# Altium schematic symbol library Regulator_Linear.SchLib: 1620 symbols (part 3 of 16)
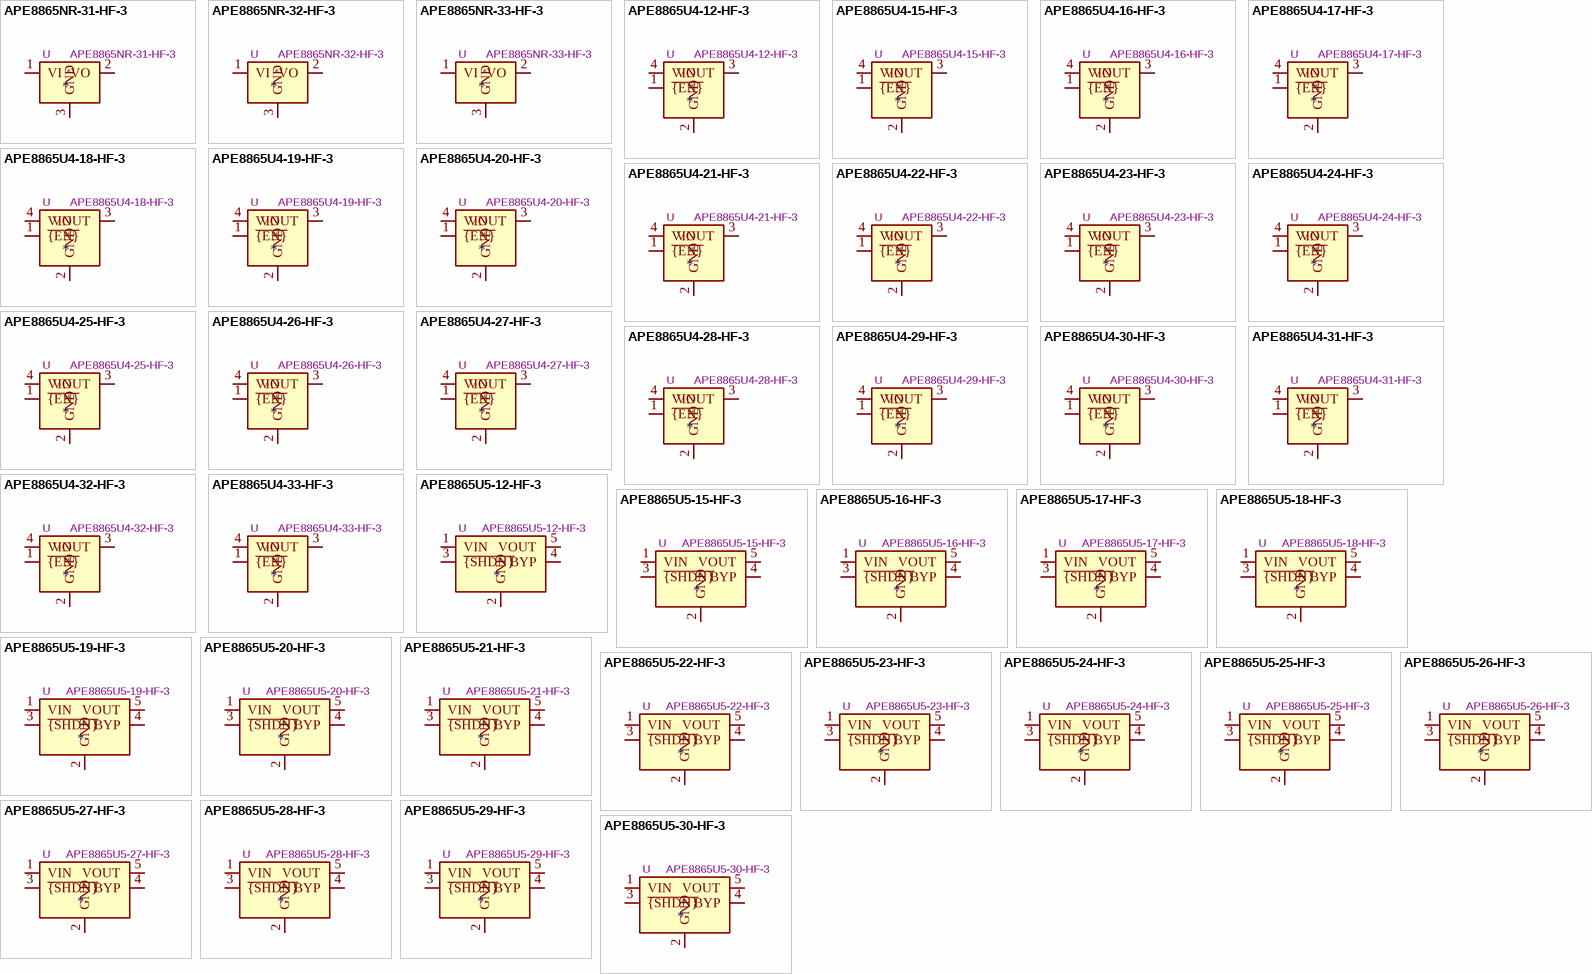
[diagram p42: symbols APE8865NR-31-HF-3 to APE8865U5-30-HF-3]

## APE8865U4-23-HF-3
designator *  value APE8865U4-23-HF-3  Reference: U
300mA Low Dropout Voltage Regulator, Fixed Output 2.3V, SC-70-4; ki_keywords: 300mA LDO Regulator Fixed Positive; ki_fp_filters: *SC?70*; Footprint: Package_TO_SOT_SMD:SOT-343_SC-70-4; Datasheet: http://www.tme.eu/fr/Document/ced3461ed31ea70a3c416fb648e0cde7/APE8865-3.pdf; Description_: 300mA Low Dropout Voltage Regulator, Fixed Output 2.3V, SC-70-4
pins: 1 ~{{EN}}, 2 GND, 3 VOUT, 4 VIN

## APE8865U4-24-HF-3
designator *  value APE8865U4-24-HF-3  Reference: U
300mA Low Dropout Voltage Regulator, Fixed Output 2.4V, SC-70-4; ki_keywords: 300mA LDO Regulator Fixed Positive; ki_fp_filters: *SC?70*; Footprint: Package_TO_SOT_SMD:SOT-343_SC-70-4; Datasheet: http://www.tme.eu/fr/Document/ced3461ed31ea70a3c416fb648e0cde7/APE8865-3.pdf; Description_: 300mA Low Dropout Voltage Regulator, Fixed Output 2.4V, SC-70-4
pins: 1 ~{{EN}}, 2 GND, 3 VOUT, 4 VIN

## APE8865U4-25-HF-3
designator *  value APE8865U4-25-HF-3  Reference: U
300mA Low Dropout Voltage Regulator, Fixed Output 2.5V, SC-70-4; ki_keywords: 300mA LDO Regulator Fixed Positive; ki_fp_filters: *SC?70*; Footprint: Package_TO_SOT_SMD:SOT-343_SC-70-4; Datasheet: http://www.tme.eu/fr/Document/ced3461ed31ea70a3c416fb648e0cde7/APE8865-3.pdf; Description_: 300mA Low Dropout Voltage Regulator, Fixed Output 2.5V, SC-70-4
pins: 1 ~{{EN}}, 2 GND, 3 VOUT, 4 VIN

## APE8865U4-26-HF-3
designator *  value APE8865U4-26-HF-3  Reference: U
300mA Low Dropout Voltage Regulator, Fixed Output 2.6V, SC-70-4; ki_keywords: 300mA LDO Regulator Fixed Positive; ki_fp_filters: *SC?70*; Footprint: Package_TO_SOT_SMD:SOT-343_SC-70-4; Datasheet: http://www.tme.eu/fr/Document/ced3461ed31ea70a3c416fb648e0cde7/APE8865-3.pdf; Description_: 300mA Low Dropout Voltage Regulator, Fixed Output 2.6V, SC-70-4
pins: 1 ~{{EN}}, 2 GND, 3 VOUT, 4 VIN

## APE8865U4-27-HF-3
designator *  value APE8865U4-27-HF-3  Reference: U
300mA Low Dropout Voltage Regulator, Fixed Output 2.7V, SC-70-4; ki_keywords: 300mA LDO Regulator Fixed Positive; ki_fp_filters: *SC?70*; Footprint: Package_TO_SOT_SMD:SOT-343_SC-70-4; Datasheet: http://www.tme.eu/fr/Document/ced3461ed31ea70a3c416fb648e0cde7/APE8865-3.pdf; Description_: 300mA Low Dropout Voltage Regulator, Fixed Output 2.7V, SC-70-4
pins: 1 ~{{EN}}, 2 GND, 3 VOUT, 4 VIN

## APE8865U4-28-HF-3
designator *  value APE8865U4-28-HF-3  Reference: U
300mA Low Dropout Voltage Regulator, Fixed Output 2.8V, SC-70-4; ki_keywords: 300mA LDO Regulator Fixed Positive; ki_fp_filters: *SC?70*; Footprint: Package_TO_SOT_SMD:SOT-343_SC-70-4; Datasheet: http://www.tme.eu/fr/Document/ced3461ed31ea70a3c416fb648e0cde7/APE8865-3.pdf; Description_: 300mA Low Dropout Voltage Regulator, Fixed Output 2.8V, SC-70-4
pins: 1 ~{{EN}}, 2 GND, 3 VOUT, 4 VIN

## APE8865U4-29-HF-3
designator *  value APE8865U4-29-HF-3  Reference: U
300mA Low Dropout Voltage Regulator, Fixed Output 2.9V, SC-70-4; ki_keywords: 300mA LDO Regulator Fixed Positive; ki_fp_filters: *SC?70*; Footprint: Package_TO_SOT_SMD:SOT-343_SC-70-4; Datasheet: http://www.tme.eu/fr/Document/ced3461ed31ea70a3c416fb648e0cde7/APE8865-3.pdf; Description_: 300mA Low Dropout Voltage Regulator, Fixed Output 2.9V, SC-70-4
pins: 1 ~{{EN}}, 2 GND, 3 VOUT, 4 VIN

## APE8865U4-30-HF-3
designator *  value APE8865U4-30-HF-3  Reference: U
300mA Low Dropout Voltage Regulator, Fixed Output 3.0V, SC-70-4; ki_keywords: 300mA LDO Regulator Fixed Positive; ki_fp_filters: *SC?70*; Footprint: Package_TO_SOT_SMD:SOT-343_SC-70-4; Datasheet: http://www.tme.eu/fr/Document/ced3461ed31ea70a3c416fb648e0cde7/APE8865-3.pdf; Description_: 300mA Low Dropout Voltage Regulator, Fixed Output 3.0V, SC-70-4
pins: 1 ~{{EN}}, 2 GND, 3 VOUT, 4 VIN

## APE8865U4-31-HF-3
designator *  value APE8865U4-31-HF-3  Reference: U
300mA Low Dropout Voltage Regulator, Fixed Output 3.1V, SC-70-4; ki_keywords: 300mA LDO Regulator Fixed Positive; ki_fp_filters: *SC?70*; Footprint: Package_TO_SOT_SMD:SOT-343_SC-70-4; Datasheet: http://www.tme.eu/fr/Document/ced3461ed31ea70a3c416fb648e0cde7/APE8865-3.pdf; Description_: 300mA Low Dropout Voltage Regulator, Fixed Output 3.1V, SC-70-4
pins: 1 ~{{EN}}, 2 GND, 3 VOUT, 4 VIN

## APE8865U4-32-HF-3
designator *  value APE8865U4-32-HF-3  Reference: U
300mA Low Dropout Voltage Regulator, Fixed Output 3.2V, SC-70-4; ki_keywords: 300mA LDO Regulator Fixed Positive; ki_fp_filters: *SC?70*; Footprint: Package_TO_SOT_SMD:SOT-343_SC-70-4; Datasheet: http://www.tme.eu/fr/Document/ced3461ed31ea70a3c416fb648e0cde7/APE8865-3.pdf; Description_: 300mA Low Dropout Voltage Regulator, Fixed Output 3.2V, SC-70-4
pins: 1 ~{{EN}}, 2 GND, 3 VOUT, 4 VIN

## APE8865U4-33-HF-3
designator *  value APE8865U4-33-HF-3  Reference: U
300mA Low Dropout Voltage Regulator, Fixed Output 3.3V, SC-70-4; ki_keywords: 300mA LDO Regulator Fixed Positive; ki_fp_filters: *SC?70*; Footprint: Package_TO_SOT_SMD:SOT-343_SC-70-4; Datasheet: http://www.tme.eu/fr/Document/ced3461ed31ea70a3c416fb648e0cde7/APE8865-3.pdf; Description_: 300mA Low Dropout Voltage Regulator, Fixed Output 3.3V, SC-70-4
pins: 1 ~{{EN}}, 2 GND, 3 VOUT, 4 VIN

## APE8865U5-12-HF-3
designator *  value APE8865U5-12-HF-3  Reference: U
300mA Low Dropout Voltage Regulator, Fixed Output 1.2V, SC-70-5; ki_keywords: 300mA LDO Regulator Fixed Positive; ki_fp_filters: *SC?70*; Footprint: Package_TO_SOT_SMD:SOT-353_SC-70-5; Datasheet: http://www.tme.eu/fr/Document/ced3461ed31ea70a3c416fb648e0cde7/APE8865-3.pdf; Description_: 300mA Low Dropout Voltage Regulator, Fixed Output 1.2V, SC-70-5
pins: 1 VIN, 2 GND, 3 ~{{SHDN}}, 4 BYP, 5 VOUT

## APE8865U5-15-HF-3
designator *  value APE8865U5-15-HF-3  Reference: U
300mA Low Dropout Voltage Regulator, Fixed Output 1.5V, SC-70-5; ki_keywords: 300mA LDO Regulator Fixed Positive; ki_fp_filters: *SC?70*; Footprint: Package_TO_SOT_SMD:SOT-353_SC-70-5; Datasheet: http://www.tme.eu/fr/Document/ced3461ed31ea70a3c416fb648e0cde7/APE8865-3.pdf; Description_: 300mA Low Dropout Voltage Regulator, Fixed Output 1.5V, SC-70-5
pins: 1 VIN, 2 GND, 3 ~{{SHDN}}, 4 BYP, 5 VOUT

## APE8865U5-16-HF-3
designator *  value APE8865U5-16-HF-3  Reference: U
300mA Low Dropout Voltage Regulator, Fixed Output 1.6V, SC-70-5; ki_keywords: 300mA LDO Regulator Fixed Positive; ki_fp_filters: *SC?70*; Footprint: Package_TO_SOT_SMD:SOT-353_SC-70-5; Datasheet: http://www.tme.eu/fr/Document/ced3461ed31ea70a3c416fb648e0cde7/APE8865-3.pdf; Description_: 300mA Low Dropout Voltage Regulator, Fixed Output 1.6V, SC-70-5
pins: 1 VIN, 2 GND, 3 ~{{SHDN}}, 4 BYP, 5 VOUT

## APE8865U5-17-HF-3
designator *  value APE8865U5-17-HF-3  Reference: U
300mA Low Dropout Voltage Regulator, Fixed Output 1.7V, SC-70-5; ki_keywords: 300mA LDO Regulator Fixed Positive; ki_fp_filters: *SC?70*; Footprint: Package_TO_SOT_SMD:SOT-353_SC-70-5; Datasheet: http://www.tme.eu/fr/Document/ced3461ed31ea70a3c416fb648e0cde7/APE8865-3.pdf; Description_: 300mA Low Dropout Voltage Regulator, Fixed Output 1.7V, SC-70-5
pins: 1 VIN, 2 GND, 3 ~{{SHDN}}, 4 BYP, 5 VOUT

## APE8865U5-18-HF-3
designator *  value APE8865U5-18-HF-3  Reference: U
300mA Low Dropout Voltage Regulator, Fixed Output 1.8V, SC-70-5; ki_keywords: 300mA LDO Regulator Fixed Positive; ki_fp_filters: *SC?70*; Footprint: Package_TO_SOT_SMD:SOT-353_SC-70-5; Datasheet: http://www.tme.eu/fr/Document/ced3461ed31ea70a3c416fb648e0cde7/APE8865-3.pdf; Description_: 300mA Low Dropout Voltage Regulator, Fixed Output 1.8V, SC-70-5
pins: 1 VIN, 2 GND, 3 ~{{SHDN}}, 4 BYP, 5 VOUT

## APE8865U5-19-HF-3
designator *  value APE8865U5-19-HF-3  Reference: U
300mA Low Dropout Voltage Regulator, Fixed Output 1.9V, SC-70-5; ki_keywords: 300mA LDO Regulator Fixed Positive; ki_fp_filters: *SC?70*; Footprint: Package_TO_SOT_SMD:SOT-353_SC-70-5; Datasheet: http://www.tme.eu/fr/Document/ced3461ed31ea70a3c416fb648e0cde7/APE8865-3.pdf; Description_: 300mA Low Dropout Voltage Regulator, Fixed Output 1.9V, SC-70-5
pins: 1 VIN, 2 GND, 3 ~{{SHDN}}, 4 BYP, 5 VOUT

## APE8865U5-20-HF-3
designator *  value APE8865U5-20-HF-3  Reference: U
300mA Low Dropout Voltage Regulator, Fixed Output 2.0V, SC-70-5; ki_keywords: 300mA LDO Regulator Fixed Positive; ki_fp_filters: *SC?70*; Footprint: Package_TO_SOT_SMD:SOT-353_SC-70-5; Datasheet: http://www.tme.eu/fr/Document/ced3461ed31ea70a3c416fb648e0cde7/APE8865-3.pdf; Description_: 300mA Low Dropout Voltage Regulator, Fixed Output 2.0V, SC-70-5
pins: 1 VIN, 2 GND, 3 ~{{SHDN}}, 4 BYP, 5 VOUT

## APE8865U5-21-HF-3
designator *  value APE8865U5-21-HF-3  Reference: U
300mA Low Dropout Voltage Regulator, Fixed Output 2.1V, SC-70-5; ki_keywords: 300mA LDO Regulator Fixed Positive; ki_fp_filters: *SC?70*; Footprint: Package_TO_SOT_SMD:SOT-353_SC-70-5; Datasheet: http://www.tme.eu/fr/Document/ced3461ed31ea70a3c416fb648e0cde7/APE8865-3.pdf; Description_: 300mA Low Dropout Voltage Regulator, Fixed Output 2.1V, SC-70-5
pins: 1 VIN, 2 GND, 3 ~{{SHDN}}, 4 BYP, 5 VOUT

## APE8865U5-22-HF-3
designator *  value APE8865U5-22-HF-3  Reference: U
300mA Low Dropout Voltage Regulator, Fixed Output 2.2V, SC-70-5; ki_keywords: 300mA LDO Regulator Fixed Positive; ki_fp_filters: *SC?70*; Footprint: Package_TO_SOT_SMD:SOT-353_SC-70-5; Datasheet: http://www.tme.eu/fr/Document/ced3461ed31ea70a3c416fb648e0cde7/APE8865-3.pdf; Description_: 300mA Low Dropout Voltage Regulator, Fixed Output 2.2V, SC-70-5
pins: 1 VIN, 2 GND, 3 ~{{SHDN}}, 4 BYP, 5 VOUT

## APE8865U5-23-HF-3
designator *  value APE8865U5-23-HF-3  Reference: U
300mA Low Dropout Voltage Regulator, Fixed Output 2.3V, SC-70-5; ki_keywords: 300mA LDO Regulator Fixed Positive; ki_fp_filters: *SC?70*; Footprint: Package_TO_SOT_SMD:SOT-353_SC-70-5; Datasheet: http://www.tme.eu/fr/Document/ced3461ed31ea70a3c416fb648e0cde7/APE8865-3.pdf; Description_: 300mA Low Dropout Voltage Regulator, Fixed Output 2.3V, SC-70-5
pins: 1 VIN, 2 GND, 3 ~{{SHDN}}, 4 BYP, 5 VOUT

## APE8865U5-24-HF-3
designator *  value APE8865U5-24-HF-3  Reference: U
300mA Low Dropout Voltage Regulator, Fixed Output 2.4V, SC-70-5; ki_keywords: 300mA LDO Regulator Fixed Positive; ki_fp_filters: *SC?70*; Footprint: Package_TO_SOT_SMD:SOT-353_SC-70-5; Datasheet: http://www.tme.eu/fr/Document/ced3461ed31ea70a3c416fb648e0cde7/APE8865-3.pdf; Description_: 300mA Low Dropout Voltage Regulator, Fixed Output 2.4V, SC-70-5
pins: 1 VIN, 2 GND, 3 ~{{SHDN}}, 4 BYP, 5 VOUT

## APE8865U5-25-HF-3
designator *  value APE8865U5-25-HF-3  Reference: U
300mA Low Dropout Voltage Regulator, Fixed Output 2.5V, SC-70-5; ki_keywords: 300mA LDO Regulator Fixed Positive; ki_fp_filters: *SC?70*; Footprint: Package_TO_SOT_SMD:SOT-353_SC-70-5; Datasheet: http://www.tme.eu/fr/Document/ced3461ed31ea70a3c416fb648e0cde7/APE8865-3.pdf; Description_: 300mA Low Dropout Voltage Regulator, Fixed Output 2.5V, SC-70-5
pins: 1 VIN, 2 GND, 3 ~{{SHDN}}, 4 BYP, 5 VOUT

## APE8865U5-26-HF-3
designator *  value APE8865U5-26-HF-3  Reference: U
300mA Low Dropout Voltage Regulator, Fixed Output 2.6V, SC-70-5; ki_keywords: 300mA LDO Regulator Fixed Positive; ki_fp_filters: *SC?70*; Footprint: Package_TO_SOT_SMD:SOT-353_SC-70-5; Datasheet: http://www.tme.eu/fr/Document/ced3461ed31ea70a3c416fb648e0cde7/APE8865-3.pdf; Description_: 300mA Low Dropout Voltage Regulator, Fixed Output 2.6V, SC-70-5
pins: 1 VIN, 2 GND, 3 ~{{SHDN}}, 4 BYP, 5 VOUT

## APE8865U5-27-HF-3
designator *  value APE8865U5-27-HF-3  Reference: U
300mA Low Dropout Voltage Regulator, Fixed Output 2.7V, SC-70-5; ki_keywords: 300mA LDO Regulator Fixed Positive; ki_fp_filters: *SC?70*; Footprint: Package_TO_SOT_SMD:SOT-353_SC-70-5; Datasheet: http://www.tme.eu/fr/Document/ced3461ed31ea70a3c416fb648e0cde7/APE8865-3.pdf; Description_: 300mA Low Dropout Voltage Regulator, Fixed Output 2.7V, SC-70-5
pins: 1 VIN, 2 GND, 3 ~{{SHDN}}, 4 BYP, 5 VOUT

## APE8865U5-28-HF-3
designator *  value APE8865U5-28-HF-3  Reference: U
300mA Low Dropout Voltage Regulator, Fixed Output 2.8V, SC-70-5; ki_keywords: 300mA LDO Regulator Fixed Positive; ki_fp_filters: *SC?70*; Footprint: Package_TO_SOT_SMD:SOT-353_SC-70-5; Datasheet: http://www.tme.eu/fr/Document/ced3461ed31ea70a3c416fb648e0cde7/APE8865-3.pdf; Description_: 300mA Low Dropout Voltage Regulator, Fixed Output 2.8V, SC-70-5
pins: 1 VIN, 2 GND, 3 ~{{SHDN}}, 4 BYP, 5 VOUT

## APE8865U5-29-HF-3
designator *  value APE8865U5-29-HF-3  Reference: U
300mA Low Dropout Voltage Regulator, Fixed Output 2.9V, SC-70-5; ki_keywords: 300mA LDO Regulator Fixed Positive; ki_fp_filters: *SC?70*; Footprint: Package_TO_SOT_SMD:SOT-353_SC-70-5; Datasheet: http://www.tme.eu/fr/Document/ced3461ed31ea70a3c416fb648e0cde7/APE8865-3.pdf; Description_: 300mA Low Dropout Voltage Regulator, Fixed Output 2.9V, SC-70-5
pins: 1 VIN, 2 GND, 3 ~{{SHDN}}, 4 BYP, 5 VOUT

## APE8865U5-30-HF-3
designator *  value APE8865U5-30-HF-3  Reference: U
300mA Low Dropout Voltage Regulator, Fixed Output 3.0V, SC-70-5; ki_keywords: 300mA LDO Regulator Fixed Positive; ki_fp_filters: *SC?70*; Footprint: Package_TO_SOT_SMD:SOT-353_SC-70-5; Datasheet: http://www.tme.eu/fr/Document/ced3461ed31ea70a3c416fb648e0cde7/APE8865-3.pdf; Description_: 300mA Low Dropout Voltage Regulator, Fixed Output 3.0V, SC-70-5
pins: 1 VIN, 2 GND, 3 ~{{SHDN}}, 4 BYP, 5 VOUT

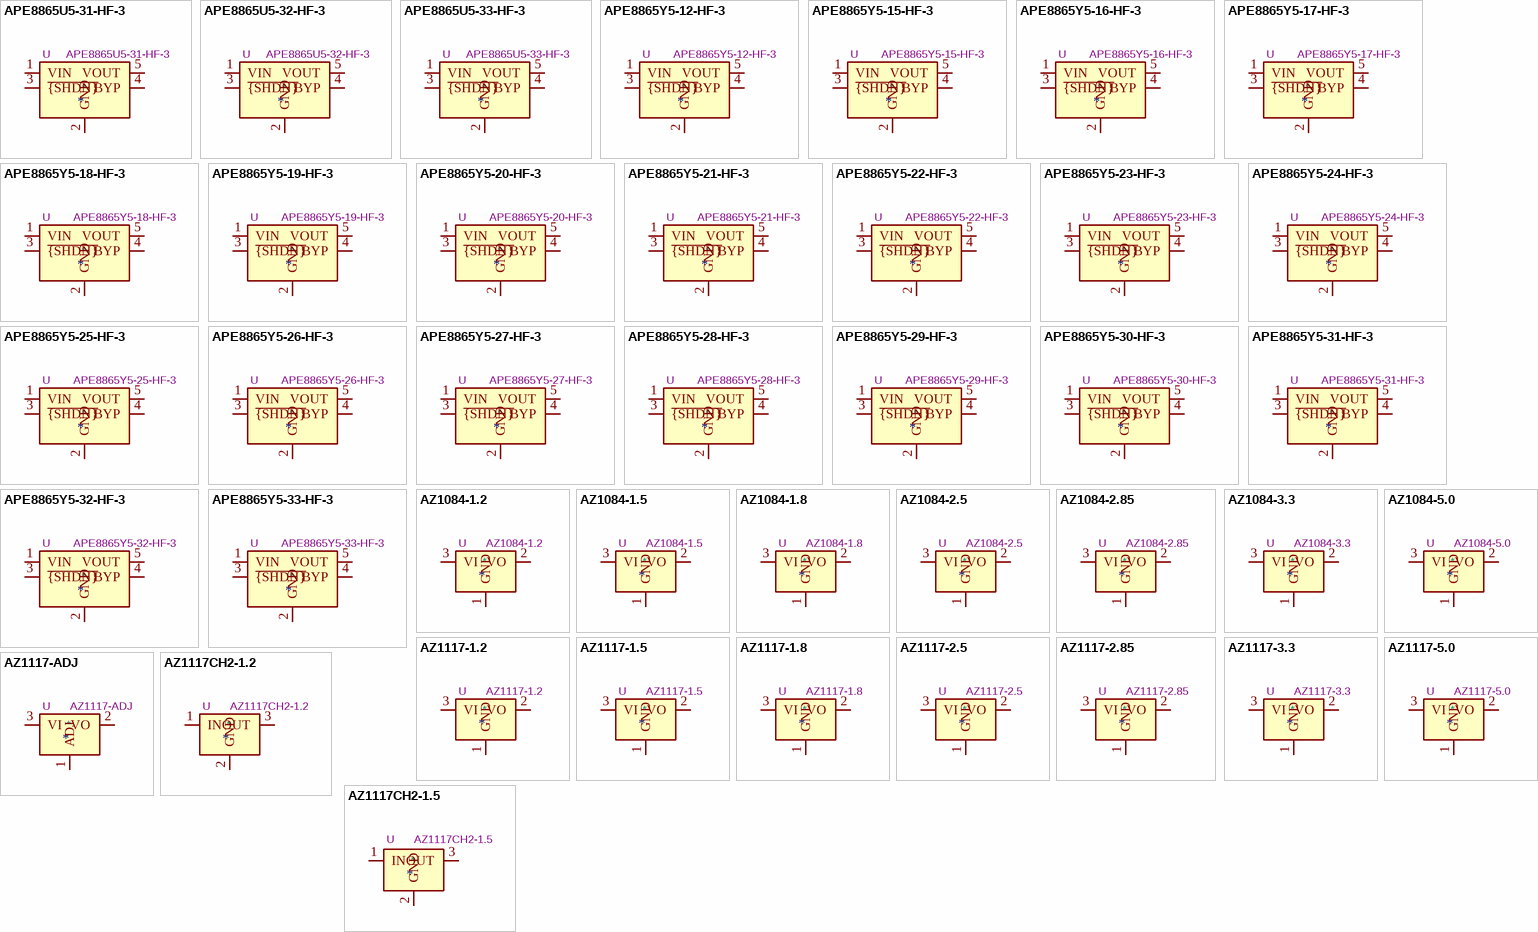
[diagram p6: symbols APE8865U5-31-HF-3 to AZ1117CH2-1.5]

## APE8865U5-31-HF-3
designator *  value APE8865U5-31-HF-3  Reference: U
300mA Low Dropout Voltage Regulator, Fixed Output 3.1V, SC-70-5; ki_keywords: 300mA LDO Regulator Fixed Positive; ki_fp_filters: *SC?70*; Footprint: Package_TO_SOT_SMD:SOT-353_SC-70-5; Datasheet: http://www.tme.eu/fr/Document/ced3461ed31ea70a3c416fb648e0cde7/APE8865-3.pdf; Description_: 300mA Low Dropout Voltage Regulator, Fixed Output 3.1V, SC-70-5
pins: 1 VIN, 2 GND, 3 ~{{SHDN}}, 4 BYP, 5 VOUT

## APE8865U5-32-HF-3
designator *  value APE8865U5-32-HF-3  Reference: U
300mA Low Dropout Voltage Regulator, Fixed Output 3.2V, SC-70-5; ki_keywords: 300mA LDO Regulator Fixed Positive; ki_fp_filters: *SC?70*; Footprint: Package_TO_SOT_SMD:SOT-353_SC-70-5; Datasheet: http://www.tme.eu/fr/Document/ced3461ed31ea70a3c416fb648e0cde7/APE8865-3.pdf; Description_: 300mA Low Dropout Voltage Regulator, Fixed Output 3.2V, SC-70-5
pins: 1 VIN, 2 GND, 3 ~{{SHDN}}, 4 BYP, 5 VOUT

## APE8865U5-33-HF-3
designator *  value APE8865U5-33-HF-3  Reference: U
300mA Low Dropout Voltage Regulator, Fixed Output 3.3V, SC-70-5; ki_keywords: 300mA LDO Regulator Fixed Positive; ki_fp_filters: *SC?70*; Footprint: Package_TO_SOT_SMD:SOT-353_SC-70-5; Datasheet: http://www.tme.eu/fr/Document/ced3461ed31ea70a3c416fb648e0cde7/APE8865-3.pdf; Description_: 300mA Low Dropout Voltage Regulator, Fixed Output 3.3V, SC-70-5
pins: 1 VIN, 2 GND, 3 ~{{SHDN}}, 4 BYP, 5 VOUT

## APE8865Y5-12-HF-3
designator *  value APE8865Y5-12-HF-3  Reference: U
300mA Low Dropout Voltage Regulator, Fixed Output 1.2V, SOT-23-5; ki_keywords: 300mA LDO Regulator Fixed Positive; ki_fp_filters: SOT?23*; Footprint: Package_TO_SOT_SMD:SOT-23-5; Datasheet: http://www.tme.eu/fr/Document/ced3461ed31ea70a3c416fb648e0cde7/APE8865-3.pdf; Description_: 300mA Low Dropout Voltage Regulator, Fixed Output 1.2V, SOT-23-5
pins: 1 VIN, 2 GND, 3 ~{{SHDN}}, 4 BYP, 5 VOUT

## APE8865Y5-15-HF-3
designator *  value APE8865Y5-15-HF-3  Reference: U
300mA Low Dropout Voltage Regulator, Fixed Output 1.5V, SOT-23-5; ki_keywords: 300mA LDO Regulator Fixed Positive; ki_fp_filters: SOT?23*; Footprint: Package_TO_SOT_SMD:SOT-23-5; Datasheet: http://www.tme.eu/fr/Document/ced3461ed31ea70a3c416fb648e0cde7/APE8865-3.pdf; Description_: 300mA Low Dropout Voltage Regulator, Fixed Output 1.5V, SOT-23-5
pins: 1 VIN, 2 GND, 3 ~{{SHDN}}, 4 BYP, 5 VOUT

## APE8865Y5-16-HF-3
designator *  value APE8865Y5-16-HF-3  Reference: U
300mA Low Dropout Voltage Regulator, Fixed Output 1.6V, SOT-23-5; ki_keywords: 300mA LDO Regulator Fixed Positive; ki_fp_filters: SOT?23*; Footprint: Package_TO_SOT_SMD:SOT-23-5; Datasheet: http://www.tme.eu/fr/Document/ced3461ed31ea70a3c416fb648e0cde7/APE8865-3.pdf; Description_: 300mA Low Dropout Voltage Regulator, Fixed Output 1.6V, SOT-23-5
pins: 1 VIN, 2 GND, 3 ~{{SHDN}}, 4 BYP, 5 VOUT

## APE8865Y5-17-HF-3
designator *  value APE8865Y5-17-HF-3  Reference: U
300mA Low Dropout Voltage Regulator, Fixed Output 1.7V, SOT-23-5; ki_keywords: 300mA LDO Regulator Fixed Positive; ki_fp_filters: SOT?23*; Footprint: Package_TO_SOT_SMD:SOT-23-5; Datasheet: http://www.tme.eu/fr/Document/ced3461ed31ea70a3c416fb648e0cde7/APE8865-3.pdf; Description_: 300mA Low Dropout Voltage Regulator, Fixed Output 1.7V, SOT-23-5
pins: 1 VIN, 2 GND, 3 ~{{SHDN}}, 4 BYP, 5 VOUT

## APE8865Y5-18-HF-3
designator *  value APE8865Y5-18-HF-3  Reference: U
300mA Low Dropout Voltage Regulator, Fixed Output 1.8V, SOT-23-5; ki_keywords: 300mA LDO Regulator Fixed Positive; ki_fp_filters: SOT?23*; Footprint: Package_TO_SOT_SMD:SOT-23-5; Datasheet: http://www.tme.eu/fr/Document/ced3461ed31ea70a3c416fb648e0cde7/APE8865-3.pdf; Description_: 300mA Low Dropout Voltage Regulator, Fixed Output 1.8V, SOT-23-5
pins: 1 VIN, 2 GND, 3 ~{{SHDN}}, 4 BYP, 5 VOUT

## APE8865Y5-19-HF-3
designator *  value APE8865Y5-19-HF-3  Reference: U
300mA Low Dropout Voltage Regulator, Fixed Output 1.9V, SOT-23-5; ki_keywords: 300mA LDO Regulator Fixed Positive; ki_fp_filters: SOT?23*; Footprint: Package_TO_SOT_SMD:SOT-23-5; Datasheet: http://www.tme.eu/fr/Document/ced3461ed31ea70a3c416fb648e0cde7/APE8865-3.pdf; Description_: 300mA Low Dropout Voltage Regulator, Fixed Output 1.9V, SOT-23-5
pins: 1 VIN, 2 GND, 3 ~{{SHDN}}, 4 BYP, 5 VOUT

## APE8865Y5-20-HF-3
designator *  value APE8865Y5-20-HF-3  Reference: U
300mA Low Dropout Voltage Regulator, Fixed Output 2.0V, SOT-23-5; ki_keywords: 300mA LDO Regulator Fixed Positive; ki_fp_filters: SOT?23*; Footprint: Package_TO_SOT_SMD:SOT-23-5; Datasheet: http://www.tme.eu/fr/Document/ced3461ed31ea70a3c416fb648e0cde7/APE8865-3.pdf; Description_: 300mA Low Dropout Voltage Regulator, Fixed Output 2.0V, SOT-23-5
pins: 1 VIN, 2 GND, 3 ~{{SHDN}}, 4 BYP, 5 VOUT

## APE8865Y5-21-HF-3
designator *  value APE8865Y5-21-HF-3  Reference: U
300mA Low Dropout Voltage Regulator, Fixed Output 2.1V, SOT-23-5; ki_keywords: 300mA LDO Regulator Fixed Positive; ki_fp_filters: SOT?23*; Footprint: Package_TO_SOT_SMD:SOT-23-5; Datasheet: http://www.tme.eu/fr/Document/ced3461ed31ea70a3c416fb648e0cde7/APE8865-3.pdf; Description_: 300mA Low Dropout Voltage Regulator, Fixed Output 2.1V, SOT-23-5
pins: 1 VIN, 2 GND, 3 ~{{SHDN}}, 4 BYP, 5 VOUT

## APE8865Y5-22-HF-3
designator *  value APE8865Y5-22-HF-3  Reference: U
300mA Low Dropout Voltage Regulator, Fixed Output 2.2V, SOT-23-5; ki_keywords: 300mA LDO Regulator Fixed Positive; ki_fp_filters: SOT?23*; Footprint: Package_TO_SOT_SMD:SOT-23-5; Datasheet: http://www.tme.eu/fr/Document/ced3461ed31ea70a3c416fb648e0cde7/APE8865-3.pdf; Description_: 300mA Low Dropout Voltage Regulator, Fixed Output 2.2V, SOT-23-5
pins: 1 VIN, 2 GND, 3 ~{{SHDN}}, 4 BYP, 5 VOUT

## APE8865Y5-23-HF-3
designator *  value APE8865Y5-23-HF-3  Reference: U
300mA Low Dropout Voltage Regulator, Fixed Output 2.3V, SOT-23-5; ki_keywords: 300mA LDO Regulator Fixed Positive; ki_fp_filters: SOT?23*; Footprint: Package_TO_SOT_SMD:SOT-23-5; Datasheet: http://www.tme.eu/fr/Document/ced3461ed31ea70a3c416fb648e0cde7/APE8865-3.pdf; Description_: 300mA Low Dropout Voltage Regulator, Fixed Output 2.3V, SOT-23-5
pins: 1 VIN, 2 GND, 3 ~{{SHDN}}, 4 BYP, 5 VOUT

## APE8865Y5-24-HF-3
designator *  value APE8865Y5-24-HF-3  Reference: U
300mA Low Dropout Voltage Regulator, Fixed Output 2.4V, SOT-23-5; ki_keywords: 300mA LDO Regulator Fixed Positive; ki_fp_filters: SOT?23*; Footprint: Package_TO_SOT_SMD:SOT-23-5; Datasheet: http://www.tme.eu/fr/Document/ced3461ed31ea70a3c416fb648e0cde7/APE8865-3.pdf; Description_: 300mA Low Dropout Voltage Regulator, Fixed Output 2.4V, SOT-23-5
pins: 1 VIN, 2 GND, 3 ~{{SHDN}}, 4 BYP, 5 VOUT

## APE8865Y5-25-HF-3
designator *  value APE8865Y5-25-HF-3  Reference: U
300mA Low Dropout Voltage Regulator, Fixed Output 2.5V, SOT-23-5; ki_keywords: 300mA LDO Regulator Fixed Positive; ki_fp_filters: SOT?23*; Footprint: Package_TO_SOT_SMD:SOT-23-5; Datasheet: http://www.tme.eu/fr/Document/ced3461ed31ea70a3c416fb648e0cde7/APE8865-3.pdf; Description_: 300mA Low Dropout Voltage Regulator, Fixed Output 2.5V, SOT-23-5
pins: 1 VIN, 2 GND, 3 ~{{SHDN}}, 4 BYP, 5 VOUT

## APE8865Y5-26-HF-3
designator *  value APE8865Y5-26-HF-3  Reference: U
300mA Low Dropout Voltage Regulator, Fixed Output 2.6V, SOT-23-5; ki_keywords: 300mA LDO Regulator Fixed Positive; ki_fp_filters: SOT?23*; Footprint: Package_TO_SOT_SMD:SOT-23-5; Datasheet: http://www.tme.eu/fr/Document/ced3461ed31ea70a3c416fb648e0cde7/APE8865-3.pdf; Description_: 300mA Low Dropout Voltage Regulator, Fixed Output 2.6V, SOT-23-5
pins: 1 VIN, 2 GND, 3 ~{{SHDN}}, 4 BYP, 5 VOUT

## APE8865Y5-27-HF-3
designator *  value APE8865Y5-27-HF-3  Reference: U
300mA Low Dropout Voltage Regulator, Fixed Output 2.7V, SOT-23-5; ki_keywords: 300mA LDO Regulator Fixed Positive; ki_fp_filters: SOT?23*; Footprint: Package_TO_SOT_SMD:SOT-23-5; Datasheet: http://www.tme.eu/fr/Document/ced3461ed31ea70a3c416fb648e0cde7/APE8865-3.pdf; Description_: 300mA Low Dropout Voltage Regulator, Fixed Output 2.7V, SOT-23-5
pins: 1 VIN, 2 GND, 3 ~{{SHDN}}, 4 BYP, 5 VOUT

## APE8865Y5-28-HF-3
designator *  value APE8865Y5-28-HF-3  Reference: U
300mA Low Dropout Voltage Regulator, Fixed Output 2.8V, SOT-23-5; ki_keywords: 300mA LDO Regulator Fixed Positive; ki_fp_filters: SOT?23*; Footprint: Package_TO_SOT_SMD:SOT-23-5; Datasheet: http://www.tme.eu/fr/Document/ced3461ed31ea70a3c416fb648e0cde7/APE8865-3.pdf; Description_: 300mA Low Dropout Voltage Regulator, Fixed Output 2.8V, SOT-23-5
pins: 1 VIN, 2 GND, 3 ~{{SHDN}}, 4 BYP, 5 VOUT

## APE8865Y5-29-HF-3
designator *  value APE8865Y5-29-HF-3  Reference: U
300mA Low Dropout Voltage Regulator, Fixed Output 2.9V, SOT-23-5; ki_keywords: 300mA LDO Regulator Fixed Positive; ki_fp_filters: SOT?23*; Footprint: Package_TO_SOT_SMD:SOT-23-5; Datasheet: http://www.tme.eu/fr/Document/ced3461ed31ea70a3c416fb648e0cde7/APE8865-3.pdf; Description_: 300mA Low Dropout Voltage Regulator, Fixed Output 2.9V, SOT-23-5
pins: 1 VIN, 2 GND, 3 ~{{SHDN}}, 4 BYP, 5 VOUT

## APE8865Y5-30-HF-3
designator *  value APE8865Y5-30-HF-3  Reference: U
300mA Low Dropout Voltage Regulator, Fixed Output 3.0V, SOT-23-5; ki_keywords: 300mA LDO Regulator Fixed Positive; ki_fp_filters: SOT?23*; Footprint: Package_TO_SOT_SMD:SOT-23-5; Datasheet: http://www.tme.eu/fr/Document/ced3461ed31ea70a3c416fb648e0cde7/APE8865-3.pdf; Description_: 300mA Low Dropout Voltage Regulator, Fixed Output 3.0V, SOT-23-5
pins: 1 VIN, 2 GND, 3 ~{{SHDN}}, 4 BYP, 5 VOUT

## APE8865Y5-31-HF-3
designator *  value APE8865Y5-31-HF-3  Reference: U
300mA Low Dropout Voltage Regulator, Fixed Output 3.1V, SOT-23-5; ki_keywords: 300mA LDO Regulator Fixed Positive; ki_fp_filters: SOT?23*; Footprint: Package_TO_SOT_SMD:SOT-23-5; Datasheet: http://www.tme.eu/fr/Document/ced3461ed31ea70a3c416fb648e0cde7/APE8865-3.pdf; Description_: 300mA Low Dropout Voltage Regulator, Fixed Output 3.1V, SOT-23-5
pins: 1 VIN, 2 GND, 3 ~{{SHDN}}, 4 BYP, 5 VOUT

## APE8865Y5-32-HF-3
designator *  value APE8865Y5-32-HF-3  Reference: U
300mA Low Dropout Voltage Regulator, Fixed Output 3.2V, SOT-23-5; ki_keywords: 300mA LDO Regulator Fixed Positive; ki_fp_filters: SOT?23*; Footprint: Package_TO_SOT_SMD:SOT-23-5; Datasheet: http://www.tme.eu/fr/Document/ced3461ed31ea70a3c416fb648e0cde7/APE8865-3.pdf; Description_: 300mA Low Dropout Voltage Regulator, Fixed Output 3.2V, SOT-23-5
pins: 1 VIN, 2 GND, 3 ~{{SHDN}}, 4 BYP, 5 VOUT

## APE8865Y5-33-HF-3
designator *  value APE8865Y5-33-HF-3  Reference: U
300mA Low Dropout Voltage Regulator, Fixed Output 3.3V, SOT-23-5; ki_keywords: 300mA LDO Regulator Fixed Positive; ki_fp_filters: SOT?23*; Footprint: Package_TO_SOT_SMD:SOT-23-5; Datasheet: http://www.tme.eu/fr/Document/ced3461ed31ea70a3c416fb648e0cde7/APE8865-3.pdf; Description_: 300mA Low Dropout Voltage Regulator, Fixed Output 3.3V, SOT-23-5
pins: 1 VIN, 2 GND, 3 ~{{SHDN}}, 4 BYP, 5 VOUT

## AZ1084-1.2
designator *  value AZ1084-1.2  Reference: U
5A 12V Fixed LDO Linear Regulator, 1.2V, TO-220/TO-252/TO-263; ki_keywords: Fixed Voltage Regulator 5A Positive LDO; ki_fp_filters: TO?220* TO?252* TO?263*; Datasheet: https://www.diodes.com/assets/Datasheets/AZ1084.pdf; Description_: 5A 12V Fixed LDO Linear Regulator, 1.2V, TO-220/TO-252/TO-263
pins: 1 GND, 2 VO, 3 VI

## AZ1084-1.5
designator *  value AZ1084-1.5  Reference: U
5A 12V Fixed LDO Linear Regulator, 1.5V, TO-220/TO-252/TO-263; ki_keywords: Fixed Voltage Regulator 5A Positive LDO; ki_fp_filters: TO?220* TO?252* TO?263*; Datasheet: https://www.diodes.com/assets/Datasheets/AZ1084.pdf; Description_: 5A 12V Fixed LDO Linear Regulator, 1.5V, TO-220/TO-252/TO-263
pins: 1 GND, 2 VO, 3 VI

## AZ1084-1.8
designator *  value AZ1084-1.8  Reference: U
5A 12V Fixed LDO Linear Regulator, 1.5V, TO-220/TO-252/TO-263; ki_keywords: Fixed Voltage Regulator 5A Positive LDO; ki_fp_filters: TO?220* TO?252* TO?263*; Datasheet: https://www.diodes.com/assets/Datasheets/AZ1084.pdf; Description_: 5A 12V Fixed LDO Linear Regulator, 1.5V, TO-220/TO-252/TO-263
pins: 1 GND, 2 VO, 3 VI

## AZ1084-2.5
designator *  value AZ1084-2.5  Reference: U
5A 12V Fixed LDO Linear Regulator, 1.5V, TO-220/TO-252/TO-263; ki_keywords: Fixed Voltage Regulator 5A Positive LDO; ki_fp_filters: TO?220* TO?252* TO?263*; Datasheet: https://www.diodes.com/assets/Datasheets/AZ1084.pdf; Description_: 5A 12V Fixed LDO Linear Regulator, 1.5V, TO-220/TO-252/TO-263
pins: 1 GND, 2 VO, 3 VI

## AZ1084-2.85
designator *  value AZ1084-2.85  Reference: U
5A 12V Fixed LDO Linear Regulator, 1.5V, TO-220/TO-252/TO-263; ki_keywords: Fixed Voltage Regulator 5A Positive LDO; ki_fp_filters: TO?220* TO?252* TO?263*; Datasheet: https://www.diodes.com/assets/Datasheets/AZ1084.pdf; Description_: 5A 12V Fixed LDO Linear Regulator, 1.5V, TO-220/TO-252/TO-263
pins: 1 GND, 2 VO, 3 VI

## AZ1084-3.3
designator *  value AZ1084-3.3  Reference: U
5A 12V Fixed LDO Linear Regulator, 1.5V, TO-220/TO-252/TO-263; ki_keywords: Fixed Voltage Regulator 5A Positive LDO; ki_fp_filters: TO?220* TO?252* TO?263*; Datasheet: https://www.diodes.com/assets/Datasheets/AZ1084.pdf; Description_: 5A 12V Fixed LDO Linear Regulator, 1.5V, TO-220/TO-252/TO-263
pins: 1 GND, 2 VO, 3 VI

## AZ1084-5.0
designator *  value AZ1084-5.0  Reference: U
5A 12V Fixed LDO Linear Regulator, 1.5V, TO-220/TO-252/TO-263; ki_keywords: Fixed Voltage Regulator 5A Positive LDO; ki_fp_filters: TO?220* TO?252* TO?263*; Datasheet: https://www.diodes.com/assets/Datasheets/AZ1084.pdf; Description_: 5A 12V Fixed LDO Linear Regulator, 1.5V, TO-220/TO-252/TO-263
pins: 1 GND, 2 VO, 3 VI

## AZ1117-1.2
designator *  value AZ1117-1.2  Reference: U
1A 20V Fixed LDO Linear Regulator, 1.2V, SOT-89/SOT-223/TO-220/TO-252/TO-263; ki_keywords: Fixed Voltage Regulator 1A Positive LDO; ki_fp_filters: SOT?223* SOT?89* TO?220* TO?252* TO?263*; Datasheet: https://www.diodes.com/assets/Datasheets/AZ1117.pdf; Description_: 1A 20V Fixed LDO Linear Regulator, 1.2V, SOT-89/SOT-223/TO-220/TO-252/TO-263
pins: 1 GND, 2 VO, 3 VI

## AZ1117-1.5
designator *  value AZ1117-1.5  Reference: U
1A 20V Fixed LDO Linear Regulator, 1.5V, SOT-89/SOT-223/TO-220/TO-252/TO-263; ki_keywords: Fixed Voltage Regulator 1A Positive LDO; ki_fp_filters: SOT?223* SOT?89* TO?220* TO?252* TO?263*; Datasheet: https://www.diodes.com/assets/Datasheets/AZ1117.pdf; Description_: 1A 20V Fixed LDO Linear Regulator, 1.5V, SOT-89/SOT-223/TO-220/TO-252/TO-263
pins: 1 GND, 2 VO, 3 VI

## AZ1117-1.8
designator *  value AZ1117-1.8  Reference: U
1A 20V Fixed LDO Linear Regulator, 1.8V, SOT-89/SOT-223/TO-220/TO-252/TO-263; ki_keywords: Fixed Voltage Regulator 1A Positive LDO; ki_fp_filters: SOT?223* SOT?89* TO?220* TO?252* TO?263*; Datasheet: https://www.diodes.com/assets/Datasheets/AZ1117.pdf; Description_: 1A 20V Fixed LDO Linear Regulator, 1.8V, SOT-89/SOT-223/TO-220/TO-252/TO-263
pins: 1 GND, 2 VO, 3 VI

## AZ1117-2.5
designator *  value AZ1117-2.5  Reference: U
1A 20V Fixed LDO Linear Regulator, 2.5V, SOT-89/SOT-223/TO-220/TO-252/TO-263; ki_keywords: Fixed Voltage Regulator 1A Positive LDO; ki_fp_filters: SOT?223* SOT?89* TO?220* TO?252* TO?263*; Datasheet: https://www.diodes.com/assets/Datasheets/AZ1117.pdf; Description_: 1A 20V Fixed LDO Linear Regulator, 2.5V, SOT-89/SOT-223/TO-220/TO-252/TO-263
pins: 1 GND, 2 VO, 3 VI

## AZ1117-2.85
designator *  value AZ1117-2.85  Reference: U
1A 20V Fixed LDO Linear Regulator, 2.85V, SOT-89/SOT-223/TO-220/TO-252/TO-263; ki_keywords: Fixed Voltage Regulator 1A Positive LDO; ki_fp_filters: SOT?223* SOT?89* TO?220* TO?252* TO?263*; Datasheet: https://www.diodes.com/assets/Datasheets/AZ1117.pdf; Description_: 1A 20V Fixed LDO Linear Regulator, 2.85V, SOT-89/SOT-223/TO-220/TO-252/TO-263
pins: 1 GND, 2 VO, 3 VI

## AZ1117-3.3
designator *  value AZ1117-3.3  Reference: U
1A 20V Fixed LDO Linear Regulator, 3.3V, SOT-89/SOT-223/TO-220/TO-252/TO-263; ki_keywords: Fixed Voltage Regulator 1A Positive LDO; ki_fp_filters: SOT?223* SOT?89* TO?220* TO?252* TO?263*; Datasheet: https://www.diodes.com/assets/Datasheets/AZ1117.pdf; Description_: 1A 20V Fixed LDO Linear Regulator, 3.3V, SOT-89/SOT-223/TO-220/TO-252/TO-263
pins: 1 GND, 2 VO, 3 VI

## AZ1117-5.0
designator *  value AZ1117-5.0  Reference: U
1A 20V Fixed LDO Linear Regulator, 5.0V, SOT-89/SOT-223/TO-220/TO-252/TO-263; ki_keywords: Fixed Voltage Regulator 1A Positive LDO; ki_fp_filters: SOT?223* SOT?89* TO?220* TO?252* TO?263*; Datasheet: https://www.diodes.com/assets/Datasheets/AZ1117.pdf; Description_: 1A 20V Fixed LDO Linear Regulator, 5.0V, SOT-89/SOT-223/TO-220/TO-252/TO-263
pins: 1 GND, 2 VO, 3 VI

## AZ1117-ADJ
designator *  value AZ1117-ADJ  Reference: U
1A 20V Adjustable LDO Linear Regulator, SOT-89/SOT-223/TO-220/TO-252/TO-263; ki_keywords: Adjustable Voltage Regulator 1A Positive LDO; ki_fp_filters: SOT?223* SOT?89* TO?220* TO?252* TO?263*; Datasheet: https://www.diodes.com/assets/Datasheets/AZ1117.pdf; Description_: 1A 20V Adjustable LDO Linear Regulator, SOT-89/SOT-223/TO-220/TO-252/TO-263
pins: 1 ADJ, 2 VO, 3 VI

## AZ1117CH2-1.2
designator *  value AZ1117CH2-1.2  Reference: U
1A Fixed 1.2V LDO Linear Regulator, 15V Max Input, SOT-223; ki_keywords: low-dropout positive; ki_fp_filters: SOT?223*TabPin2*; Footprint: Package_TO_SOT_SMD:SOT-223-3_TabPin2; Datasheet: https://www.diodes.com/assets/Datasheets/AZ1117C.pdf; Description_: 1A Fixed 1.2V LDO Linear Regulator, 15V Max Input, SOT-223
pins: 1 IN, 2 GND, 3 OUT

## AZ1117CH2-1.5
designator *  value AZ1117CH2-1.5  Reference: U
1A Fixed 1.5V LDO Linear Regulator, 15V Max Input, SOT-223; ki_keywords: low-dropout positive; ki_fp_filters: SOT?223*; Footprint: Package_TO_SOT_SMD:SOT-223-3_TabPin2; Datasheet: https://www.diodes.com/assets/Datasheets/AZ1117C.pdf; Description_: 1A Fixed 1.5V LDO Linear Regulator, 15V Max Input, SOT-223
pins: 1 IN, 2 GND, 3 OUT

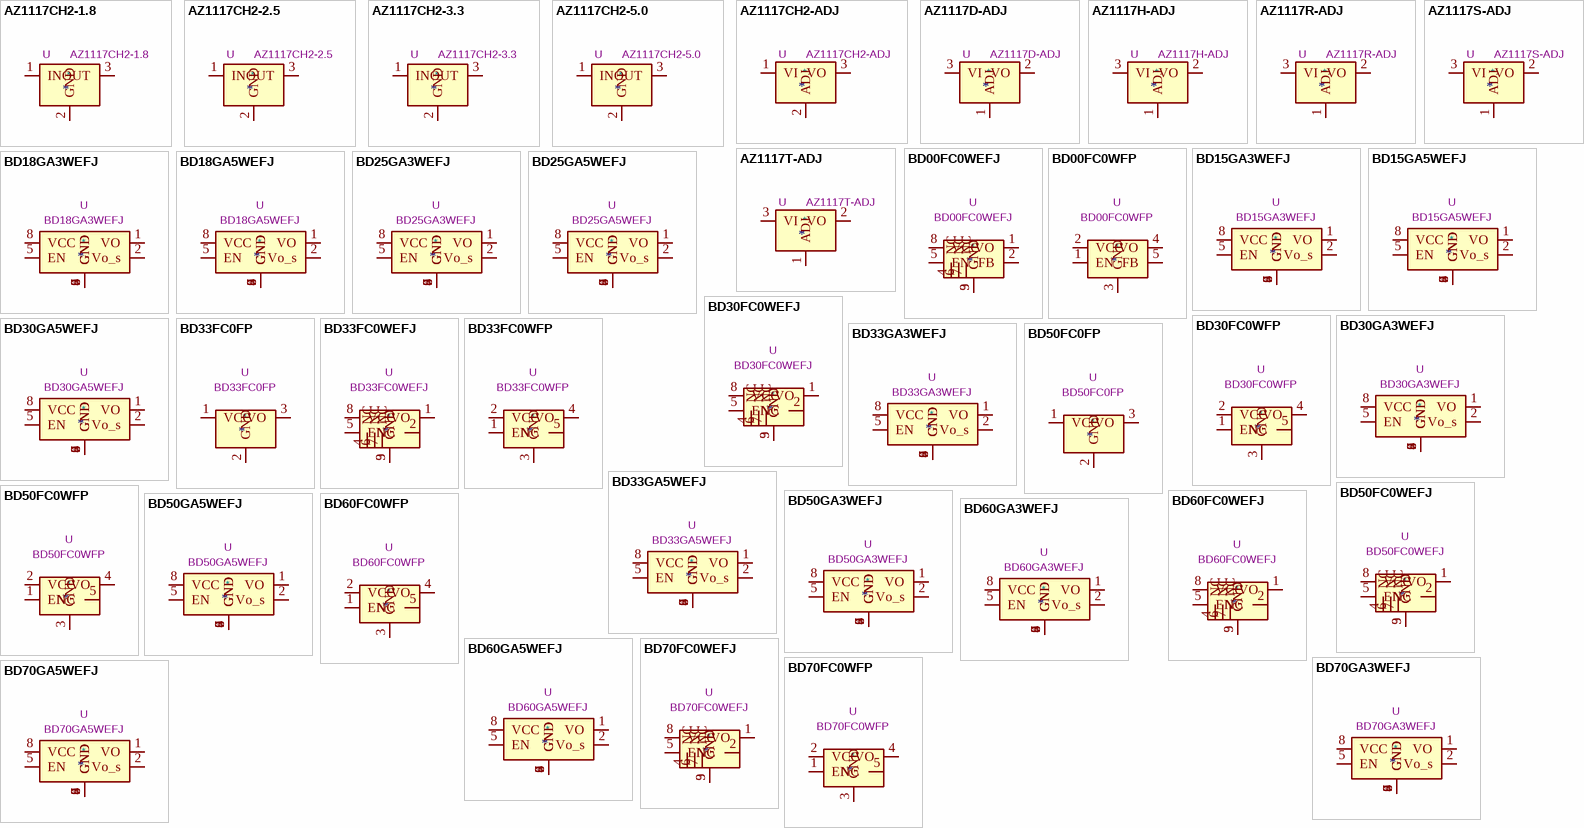
[diagram p7: symbols AZ1117CH2-1.8 to BD70GA5WEFJ]

## AZ1117CH2-1.8
designator *  value AZ1117CH2-1.8  Reference: U
1A Fixed 1.8V LDO Linear Regulator, 15V Max Input, SOT-223; ki_keywords: low-dropout positive; ki_fp_filters: SOT?223*; Footprint: Package_TO_SOT_SMD:SOT-223-3_TabPin2; Datasheet: https://www.diodes.com/assets/Datasheets/AZ1117C.pdf; Description_: 1A Fixed 1.8V LDO Linear Regulator, 15V Max Input, SOT-223
pins: 1 IN, 2 GND, 3 OUT

## AZ1117CH2-2.5
designator *  value AZ1117CH2-2.5  Reference: U
1A Fixed 2.5V LDO Linear Regulator, 15V Max Input, SOT-223; ki_keywords: low-dropout positive; ki_fp_filters: SOT?223*; Footprint: Package_TO_SOT_SMD:SOT-223-3_TabPin2; Datasheet: https://www.diodes.com/assets/Datasheets/AZ1117C.pdf; Description_: 1A Fixed 2.5V LDO Linear Regulator, 15V Max Input, SOT-223
pins: 1 IN, 2 GND, 3 OUT

## AZ1117CH2-3.3
designator *  value AZ1117CH2-3.3  Reference: U
1A Fixed 3.3V LDO Linear Regulator, 15V Max Input, SOT-223; ki_keywords: low-dropout positive; ki_fp_filters: SOT?223*; Footprint: Package_TO_SOT_SMD:SOT-223-3_TabPin2; Datasheet: https://www.diodes.com/assets/Datasheets/AZ1117C.pdf; Description_: 1A Fixed 3.3V LDO Linear Regulator, 15V Max Input, SOT-223
pins: 1 IN, 2 GND, 3 OUT

## AZ1117CH2-5.0
designator *  value AZ1117CH2-5.0  Reference: U
1A Fixed 5.0V LDO Linear Regulator, 15V Max Input, SOT-223; ki_keywords: low-dropout positive; ki_fp_filters: SOT?223*; Footprint: Package_TO_SOT_SMD:SOT-223-3_TabPin2; Datasheet: https://www.diodes.com/assets/Datasheets/AZ1117C.pdf; Description_: 1A Fixed 5.0V LDO Linear Regulator, 15V Max Input, SOT-223
pins: 1 IN, 2 GND, 3 OUT

## AZ1117CH2-ADJ
designator *  value AZ1117CH2-ADJ  Reference: U
1A Adjustable LDO Linear Regulator, 15V Max Input, SOT-223; ki_keywords: low-dropout positive; ki_fp_filters: SOT?223*; Footprint: Package_TO_SOT_SMD:SOT-223-3_TabPin2; Datasheet: https://www.diodes.com/assets/Datasheets/AZ1117C.pdf; Description_: 1A Adjustable LDO Linear Regulator, 15V Max Input, SOT-223
pins: 1 VI, 2 ADJ, 3 VO

## AZ1117D-ADJ
designator *  value AZ1117D-ADJ  Reference: U
1A 20V Adjustable LDO Linear Regulator, TO-252; ki_keywords: Adjustable Voltage Regulator 1A Positive LDO; ki_fp_filters: TO?252*; Footprint: Package_TO_SOT_SMD:TO-252-2; Datasheet: https://www.diodes.com/assets/Datasheets/products_inactive_data/AZ1117.pdf; Description_: 1A 20V Adjustable LDO Linear Regulator, TO-252
pins: 1 ADJ, 2 VO, 3 VI

## AZ1117H-ADJ
designator *  value AZ1117H-ADJ  Reference: U
1A 20V Adjustable LDO Linear Regulator, SOT-223; ki_keywords: Adjustable Voltage Regulator 1A Positive LDO; ki_fp_filters: SOT?223*TabPin2*; Footprint: Package_TO_SOT_SMD:SOT-223-3_TabPin2; Datasheet: https://www.diodes.com/assets/Datasheets/products_inactive_data/AZ1117.pdf; Description_: 1A 20V Adjustable LDO Linear Regulator, SOT-223
pins: 1 ADJ, 2 VO, 3 VI

## AZ1117R-ADJ
designator *  value AZ1117R-ADJ  Reference: U
1A 20V Adjustable LDO Linear Regulator, SOT-89; ki_keywords: Adjustable Voltage Regulator 1A Positive LDO; ki_fp_filters: SOT?89*; Footprint: Package_TO_SOT_SMD:SOT-89-3; Datasheet: https://www.diodes.com/assets/Datasheets/products_inactive_data/AZ1117.pdf; Description_: 1A 20V Adjustable LDO Linear Regulator, SOT-89
pins: 1 ADJ, 2 VO, 3 VI

## AZ1117S-ADJ
designator *  value AZ1117S-ADJ  Reference: U
1A 20V Adjustable LDO Linear Regulator, TO-263; ki_keywords: Adjustable Voltage Regulator 1A Positive LDO; ki_fp_filters: TO?263*; Footprint: Package_TO_SOT_SMD:TO-263-2; Datasheet: https://www.diodes.com/assets/Datasheets/products_inactive_data/AZ1117.pdf; Description_: 1A 20V Adjustable LDO Linear Regulator, TO-263
pins: 1 ADJ, 2 VO, 3 VI

## AZ1117T-ADJ
designator *  value AZ1117T-ADJ  Reference: U
1A 20V Adjustable LDO Linear Regulator, TO-220; ki_keywords: Adjustable Voltage Regulator 1A Positive LDO; ki_fp_filters: TO?220*; Footprint: Package_TO_SOT_THT:TO-220-3_Vertical; Datasheet: https://www.diodes.com/assets/Datasheets/products_inactive_data/AZ1117.pdf; Description_: 1A 20V Adjustable LDO Linear Regulator, TO-220
pins: 1 ADJ, 2 VO, 3 VI

## BD00FC0WEFJ
designator *  value BD00FC0WEFJ  Reference: U
1A, variable LDO regulator with OVP & TSP, with enable, HTSOP-J8; ki_keywords: linear regulator variable positive over voltage protection thermal shutdown; ki_fp_filters: HTSOP*1EP*3.9x4.9mm*P1.27mm*; Footprint: Package_SO:HTSOP-8-1EP_3.9x4.9mm_P1.27mm_EP2.4x3.2mm; Datasheet: https://fscdn.rohm.com/en/products/databook/datasheet/ic/power/linear_regulator/bdxxfc0wefj-e.pdf; Description_: 1A, variable LDO regulator with OVP & TSP, with enable, HTSOP-J8
pins: 1 VO, 2 FB, 3 GND, 4 NC, 5 EN, 6 NC, 7 NC, 8 VCC, 9 GND

## BD00FC0WFP
designator *  value BD00FC0WFP  Reference: U
1A, variable LDO regulator with OVP & TSP, with enable, TO-252; ki_keywords: linear regulator variable positive over voltage protection thermal shutdown; ki_fp_filters: TO?252*; Footprint: Package_TO_SOT_SMD:TO-252-4; Datasheet: https://fscdn.rohm.com/en/products/databook/datasheet/ic/power/linear_regulator/bdxxfc0wefj-e.pdf; Description_: 1A, variable LDO regulator with OVP & TSP, with enable, TO-252
pins: 1 EN, 2 VCC, 3 GND, 4 VO, 5 FB

## BD15GA3WEFJ
designator *  value BD15GA3WEFJ  Reference: U
300mA, 1.5V LDO regulator with OVP & TSP, HTSOP-8; ki_keywords: linear regulator fixed positive over voltage protection thermal shutdown; ki_fp_filters: HTSOP*1EP*3.9x4.9mm*P1.27mm*; Footprint: Package_SO:HTSOP-8-1EP_3.9x4.9mm_P1.27mm_EP2.4x3.2mm; Datasheet: http://rohmfs.rohm.com/en/products/databook/datasheet/ic/power/linear_regulator/bdxxga3wefj-e.pdf; Description_: 300mA, 1.5V LDO regulator with OVP & TSP, HTSOP-8
pins: 1 VO, 2 Vo_s, 3 GND, 4 GND, 5 EN, 6 GND, 7 GND, 8 VCC, 9 GND

## BD15GA5WEFJ
designator *  value BD15GA5WEFJ  Reference: U
500mA, 1.5V LDO regulator with OVP & TSP, HTSOP-8; ki_keywords: linear regulator fixed positive over voltage protection thermal shutdown; ki_fp_filters: HTSOP*1EP*3.9x4.9mm*P1.27mm*; Footprint: Package_SO:HTSOP-8-1EP_3.9x4.9mm_P1.27mm_EP2.4x3.2mm; Datasheet: http://rohmfs.rohm.com/en/products/databook/datasheet/ic/power/linear_regulator/bdxxga5wefj-e.pdf; Description_: 500mA, 1.5V LDO regulator with OVP & TSP, HTSOP-8
pins: 1 VO, 2 Vo_s, 3 GND, 4 GND, 5 EN, 6 GND, 7 GND, 8 VCC, 9 GND

## BD18GA3WEFJ
designator *  value BD18GA3WEFJ  Reference: U
300mA, 1.8V LDO regulator with OVP & TSP, HTSOP-8; ki_keywords: linear regulator fixed positive over voltage protection thermal shutdown; ki_fp_filters: HTSOP*1EP*3.9x4.9mm*P1.27mm*; Footprint: Package_SO:HTSOP-8-1EP_3.9x4.9mm_P1.27mm_EP2.4x3.2mm; Datasheet: http://rohmfs.rohm.com/en/products/databook/datasheet/ic/power/linear_regulator/bdxxga3wefj-e.pdf; Description_: 300mA, 1.8V LDO regulator with OVP & TSP, HTSOP-8
pins: 1 VO, 2 Vo_s, 3 GND, 4 GND, 5 EN, 6 GND, 7 GND, 8 VCC, 9 GND

## BD18GA5WEFJ
designator *  value BD18GA5WEFJ  Reference: U
500mA, 1.8V LDO regulator with OVP & TSP, HTSOP-8; ki_keywords: linear regulator fixed positive over voltage protection thermal shutdown; ki_fp_filters: HTSOP*1EP*3.9x4.9mm*P1.27mm*; Footprint: Package_SO:HTSOP-8-1EP_3.9x4.9mm_P1.27mm_EP2.4x3.2mm; Datasheet: http://rohmfs.rohm.com/en/products/databook/datasheet/ic/power/linear_regulator/bdxxga5wefj-e.pdf; Description_: 500mA, 1.8V LDO regulator with OVP & TSP, HTSOP-8
pins: 1 VO, 2 Vo_s, 3 GND, 4 GND, 5 EN, 6 GND, 7 GND, 8 VCC, 9 GND

## BD25GA3WEFJ
designator *  value BD25GA3WEFJ  Reference: U
300mA, 2.5V LDO regulator with OVP & TSP, HTSOP-8; ki_keywords: linear regulator fixed positive over voltage protection thermal shutdown; ki_fp_filters: HTSOP*1EP*3.9x4.9mm*P1.27mm*; Footprint: Package_SO:HTSOP-8-1EP_3.9x4.9mm_P1.27mm_EP2.4x3.2mm; Datasheet: http://rohmfs.rohm.com/en/products/databook/datasheet/ic/power/linear_regulator/bdxxga3wefj-e.pdf; Description_: 300mA, 2.5V LDO regulator with OVP & TSP, HTSOP-8
pins: 1 VO, 2 Vo_s, 3 GND, 4 GND, 5 EN, 6 GND, 7 GND, 8 VCC, 9 GND

## BD25GA5WEFJ
designator *  value BD25GA5WEFJ  Reference: U
500mA, 2.5V LDO regulator with OVP & TSP, HTSOP-8; ki_keywords: linear regulator fixed positive over voltage protection thermal shutdown; ki_fp_filters: HTSOP*1EP*3.9x4.9mm*P1.27mm*; Footprint: Package_SO:HTSOP-8-1EP_3.9x4.9mm_P1.27mm_EP2.4x3.2mm; Datasheet: http://rohmfs.rohm.com/en/products/databook/datasheet/ic/power/linear_regulator/bdxxga5wefj-e.pdf; Description_: 500mA, 2.5V LDO regulator with OVP & TSP, HTSOP-8
pins: 1 VO, 2 Vo_s, 3 GND, 4 GND, 5 EN, 6 GND, 7 GND, 8 VCC, 9 GND

## BD30FC0WEFJ
designator *  value BD30FC0WEFJ  Reference: U
1A, 3.0V LDO regulator with OVP & TSP, with enable, HTSOP-J8; ki_keywords: linear regulator fixed positive over voltage protection thermal shutdown; ki_fp_filters: HTSOP*1EP*3.9x4.9mm*P1.27mm*; Footprint: Package_SO:HTSOP-8-1EP_3.9x4.9mm_P1.27mm_EP2.4x3.2mm; Datasheet: https://fscdn.rohm.com/en/products/databook/datasheet/ic/power/linear_regulator/bdxxfc0wefj-e.pdf; Description_: 1A, 3.0V LDO regulator with OVP & TSP, with enable, HTSOP-J8
pins: 1 VO, 2 NC, 3 GND, 4 NC, 5 EN, 6 NC, 7 NC, 8 VCC, 9 GND

## BD30FC0WFP
designator *  value BD30FC0WFP  Reference: U
1A, 3.0V LDO regulator with OVP & TSP, with enable, TO-252; ki_keywords: linear regulator fixed positive over voltage protection thermal shutdown; ki_fp_filters: TO?252*; Footprint: Package_TO_SOT_SMD:TO-252-4; Datasheet: https://fscdn.rohm.com/en/products/databook/datasheet/ic/power/linear_regulator/bdxxfc0wefj-e.pdf; Description_: 1A, 3.0V LDO regulator with OVP & TSP, with enable, TO-252
pins: 1 EN, 2 VCC, 3 GND, 4 VO, 5 NC

## BD30GA3WEFJ
designator *  value BD30GA3WEFJ  Reference: U
300mA, 3V LDO regulator with OVP & TSP, HTSOP-8; ki_keywords: linear regulator fixed positive over voltage protection thermal shutdown; ki_fp_filters: HTSOP*1EP*3.9x4.9mm*P1.27mm*; Footprint: Package_SO:HTSOP-8-1EP_3.9x4.9mm_P1.27mm_EP2.4x3.2mm; Datasheet: http://rohmfs.rohm.com/en/products/databook/datasheet/ic/power/linear_regulator/bdxxga3wefj-e.pdf; Description_: 300mA, 3V LDO regulator with OVP & TSP, HTSOP-8
pins: 1 VO, 2 Vo_s, 3 GND, 4 GND, 5 EN, 6 GND, 7 GND, 8 VCC, 9 GND

## BD30GA5WEFJ
designator *  value BD30GA5WEFJ  Reference: U
500mA, 3V LDO regulator with OVP & TSP, HTSOP-8; ki_keywords: linear regulator fixed positive over voltage protection thermal shutdown; ki_fp_filters: HTSOP*1EP*3.9x4.9mm*P1.27mm*; Footprint: Package_SO:HTSOP-8-1EP_3.9x4.9mm_P1.27mm_EP2.4x3.2mm; Datasheet: http://rohmfs.rohm.com/en/products/databook/datasheet/ic/power/linear_regulator/bdxxga5wefj-e.pdf; Description_: 500mA, 3V LDO regulator with OVP & TSP, HTSOP-8
pins: 1 VO, 2 Vo_s, 3 GND, 4 GND, 5 EN, 6 GND, 7 GND, 8 VCC, 9 GND

## BD33FC0FP
designator *  value BD33FC0FP  Reference: U
1A, 3.3V LDO regulator with OVP & TSP, without enable, TO-252; ki_keywords: linear regulator fixed positive over voltage protection thermal shutdown; ki_fp_filters: TO?252*; Footprint: Package_TO_SOT_SMD:TO-252-2; Datasheet: https://fscdn.rohm.com/en/products/databook/datasheet/ic/power/linear_regulator/bdxxfc0wefj-e.pdf; Description_: 1A, 3.3V LDO regulator with OVP & TSP, without enable, TO-252
pins: 1 VCC, 2 GND, 3 VO

## BD33FC0WEFJ
designator *  value BD33FC0WEFJ  Reference: U
1A, 3.3V LDO regulator with OVP & TSP, with enable, HTSOP-J8; ki_keywords: linear regulator fixed positive over voltage protection thermal shutdown; ki_fp_filters: HTSOP*1EP*3.9x4.9mm*P1.27mm*; Footprint: Package_SO:HTSOP-8-1EP_3.9x4.9mm_P1.27mm_EP2.4x3.2mm; Datasheet: https://fscdn.rohm.com/en/products/databook/datasheet/ic/power/linear_regulator/bdxxfc0wefj-e.pdf; Description_: 1A, 3.3V LDO regulator with OVP & TSP, with enable, HTSOP-J8
pins: 1 VO, 2 NC, 3 GND, 4 NC, 5 EN, 6 NC, 7 NC, 8 VCC, 9 GND

## BD33FC0WFP
designator *  value BD33FC0WFP  Reference: U
1A, 3.3V LDO regulator with OVP & TSP, with enable, TO-252; ki_keywords: linear regulator fixed positive over voltage protection thermal shutdown; ki_fp_filters: TO?252*; Footprint: Package_TO_SOT_SMD:TO-252-4; Datasheet: https://fscdn.rohm.com/en/products/databook/datasheet/ic/power/linear_regulator/bdxxfc0wefj-e.pdf; Description_: 1A, 3.3V LDO regulator with OVP & TSP, with enable, TO-252
pins: 1 EN, 2 VCC, 3 GND, 4 VO, 5 NC

## BD33GA3WEFJ
designator *  value BD33GA3WEFJ  Reference: U
300mA, 3.3V LDO regulator with OVP & TSP, HTSOP-8; ki_keywords: linear regulator fixed positive over voltage protection thermal shutdown; ki_fp_filters: HTSOP*1EP*3.9x4.9mm*P1.27mm*; Footprint: Package_SO:HTSOP-8-1EP_3.9x4.9mm_P1.27mm_EP2.4x3.2mm; Datasheet: http://rohmfs.rohm.com/en/products/databook/datasheet/ic/power/linear_regulator/bdxxga3wefj-e.pdf; Description_: 300mA, 3.3V LDO regulator with OVP & TSP, HTSOP-8
pins: 1 VO, 2 Vo_s, 3 GND, 4 GND, 5 EN, 6 GND, 7 GND, 8 VCC, 9 GND

## BD33GA5WEFJ
designator *  value BD33GA5WEFJ  Reference: U
500mA, 3.3V LDO regulator with OVP & TSP, HTSOP-8; ki_keywords: linear regulator fixed positive over voltage protection thermal shutdown; ki_fp_filters: HTSOP*1EP*3.9x4.9mm*P1.27mm*; Footprint: Package_SO:HTSOP-8-1EP_3.9x4.9mm_P1.27mm_EP2.4x3.2mm; Datasheet: http://rohmfs.rohm.com/en/products/databook/datasheet/ic/power/linear_regulator/bdxxga5wefj-e.pdf; Description_: 500mA, 3.3V LDO regulator with OVP & TSP, HTSOP-8
pins: 1 VO, 2 Vo_s, 3 GND, 4 GND, 5 EN, 6 GND, 7 GND, 8 VCC, 9 GND

## BD50FC0FP
designator *  value BD50FC0FP  Reference: U
1A, 5.0V LDO regulator with OVP & TSP, without enable, TO-252; ki_keywords: linear regulator fixed positive over voltage protection thermal shutdown; ki_fp_filters: TO?252*; Footprint: Package_TO_SOT_SMD:TO-252-2; Datasheet: https://fscdn.rohm.com/en/products/databook/datasheet/ic/power/linear_regulator/bdxxfc0wefj-e.pdf; Description_: 1A, 5.0V LDO regulator with OVP & TSP, without enable, TO-252
pins: 1 VCC, 2 GND, 3 VO

## BD50FC0WEFJ
designator *  value BD50FC0WEFJ  Reference: U
1A, 5.0V LDO regulator with OVP & TSP, with enable, HTSOP-J8; ki_keywords: linear regulator fixed positive over voltage protection thermal shutdown; ki_fp_filters: HTSOP*1EP*3.9x4.9mm*P1.27mm*; Footprint: Package_SO:HTSOP-8-1EP_3.9x4.9mm_P1.27mm_EP2.4x3.2mm; Datasheet: https://fscdn.rohm.com/en/products/databook/datasheet/ic/power/linear_regulator/bdxxfc0wefj-e.pdf; Description_: 1A, 5.0V LDO regulator with OVP & TSP, with enable, HTSOP-J8
pins: 1 VO, 2 NC, 3 GND, 4 NC, 5 EN, 6 NC, 7 NC, 8 VCC, 9 GND

## BD50FC0WFP
designator *  value BD50FC0WFP  Reference: U
1A, 5.0V LDO regulator with OVP & TSP, with enable, TO-252; ki_keywords: linear regulator fixed positive over voltage protection thermal shutdown; ki_fp_filters: TO?252*; Footprint: Package_TO_SOT_SMD:TO-252-4; Datasheet: https://fscdn.rohm.com/en/products/databook/datasheet/ic/power/linear_regulator/bdxxfc0wefj-e.pdf; Description_: 1A, 5.0V LDO regulator with OVP & TSP, with enable, TO-252
pins: 1 EN, 2 VCC, 3 GND, 4 VO, 5 NC

## BD50GA3WEFJ
designator *  value BD50GA3WEFJ  Reference: U
300mA, 5V LDO regulator with OVP & TSP, HTSOP-8; ki_keywords: linear regulator fixed positive over voltage protection thermal shutdown; ki_fp_filters: HTSOP*1EP*3.9x4.9mm*P1.27mm*; Footprint: Package_SO:HTSOP-8-1EP_3.9x4.9mm_P1.27mm_EP2.4x3.2mm; Datasheet: http://rohmfs.rohm.com/en/products/databook/datasheet/ic/power/linear_regulator/bdxxga3wefj-e.pdf; Description_: 300mA, 5V LDO regulator with OVP & TSP, HTSOP-8
pins: 1 VO, 2 Vo_s, 3 GND, 4 GND, 5 EN, 6 GND, 7 GND, 8 VCC, 9 GND

## BD50GA5WEFJ
designator *  value BD50GA5WEFJ  Reference: U
500mA, 5V LDO regulator with OVP & TSP, HTSOP-8; ki_keywords: linear regulator fixed positive over voltage protection thermal shutdown; ki_fp_filters: HTSOP*1EP*3.9x4.9mm*P1.27mm*; Footprint: Package_SO:HTSOP-8-1EP_3.9x4.9mm_P1.27mm_EP2.4x3.2mm; Datasheet: http://rohmfs.rohm.com/en/products/databook/datasheet/ic/power/linear_regulator/bdxxga5wefj-e.pdf; Description_: 500mA, 5V LDO regulator with OVP & TSP, HTSOP-8
pins: 1 VO, 2 Vo_s, 3 GND, 4 GND, 5 EN, 6 GND, 7 GND, 8 VCC, 9 GND

## BD60FC0WEFJ
designator *  value BD60FC0WEFJ  Reference: U
1A, 6.0V LDO regulator with OVP & TSP, with enable, HTSOP-J8; ki_keywords: linear regulator fixed positive over voltage protection thermal shutdown; ki_fp_filters: HTSOP*1EP*3.9x4.9mm*P1.27mm*; Footprint: Package_SO:HTSOP-8-1EP_3.9x4.9mm_P1.27mm_EP2.4x3.2mm; Datasheet: https://fscdn.rohm.com/en/products/databook/datasheet/ic/power/linear_regulator/bdxxfc0wefj-e.pdf; Description_: 1A, 6.0V LDO regulator with OVP & TSP, with enable, HTSOP-J8
pins: 1 VO, 2 NC, 3 GND, 4 NC, 5 EN, 6 NC, 7 NC, 8 VCC, 9 GND

## BD60FC0WFP
designator *  value BD60FC0WFP  Reference: U
1A, 6.0V LDO regulator with OVP & TSP, with enable, TO-252; ki_keywords: linear regulator fixed positive over voltage protection thermal shutdown; ki_fp_filters: TO?252*; Footprint: Package_TO_SOT_SMD:TO-252-4; Datasheet: https://fscdn.rohm.com/en/products/databook/datasheet/ic/power/linear_regulator/bdxxfc0wefj-e.pdf; Description_: 1A, 6.0V LDO regulator with OVP & TSP, with enable, TO-252
pins: 1 EN, 2 VCC, 3 GND, 4 VO, 5 NC

## BD60GA3WEFJ
designator *  value BD60GA3WEFJ  Reference: U
300mA, 6V LDO regulator with OVP & TSP, HTSOP-8; ki_keywords: linear regulator fixed positive over voltage protection thermal shutdown; ki_fp_filters: HTSOP*1EP*3.9x4.9mm*P1.27mm*; Footprint: Package_SO:HTSOP-8-1EP_3.9x4.9mm_P1.27mm_EP2.4x3.2mm; Datasheet: http://rohmfs.rohm.com/en/products/databook/datasheet/ic/power/linear_regulator/bdxxga3wefj-e.pdf; Description_: 300mA, 6V LDO regulator with OVP & TSP, HTSOP-8
pins: 1 VO, 2 Vo_s, 3 GND, 4 GND, 5 EN, 6 GND, 7 GND, 8 VCC, 9 GND

## BD60GA5WEFJ
designator *  value BD60GA5WEFJ  Reference: U
500mA, 6V LDO regulator with OVP & TSP, HTSOP-8; ki_keywords: linear regulator fixed positive over voltage protection thermal shutdown; ki_fp_filters: HTSOP*1EP*3.9x4.9mm*P1.27mm*; Footprint: Package_SO:HTSOP-8-1EP_3.9x4.9mm_P1.27mm_EP2.4x3.2mm; Datasheet: http://rohmfs.rohm.com/en/products/databook/datasheet/ic/power/linear_regulator/bdxxga5wefj-e.pdf; Description_: 500mA, 6V LDO regulator with OVP & TSP, HTSOP-8
pins: 1 VO, 2 Vo_s, 3 GND, 4 GND, 5 EN, 6 GND, 7 GND, 8 VCC, 9 GND

## BD70FC0WEFJ
designator *  value BD70FC0WEFJ  Reference: U
1A, 7.0V LDO regulator with OVP & TSP, with enable, HTSOP-J8; ki_keywords: linear regulator fixed positive over voltage protection thermal shutdown; ki_fp_filters: HTSOP*1EP*3.9x4.9mm*P1.27mm*; Footprint: Package_SO:HTSOP-8-1EP_3.9x4.9mm_P1.27mm_EP2.4x3.2mm; Datasheet: https://fscdn.rohm.com/en/products/databook/datasheet/ic/power/linear_regulator/bdxxfc0wefj-e.pdf; Description_: 1A, 7.0V LDO regulator with OVP & TSP, with enable, HTSOP-J8
pins: 1 VO, 2 NC, 3 GND, 4 NC, 5 EN, 6 NC, 7 NC, 8 VCC, 9 GND